# Altium footprint library Altium-RC.PcbLib: 36 footprints (part 1 of 3)
Each footprint in its own frame and in the unit in brackets; x right, y up, seen from the top. Pads: shape width x height; smd on the part's side, far side on the other; paste and mask are expansions set on the pad; w line width, h text height; cw(c..) or ccw(c..) is an arc to the next point about the centre after c.
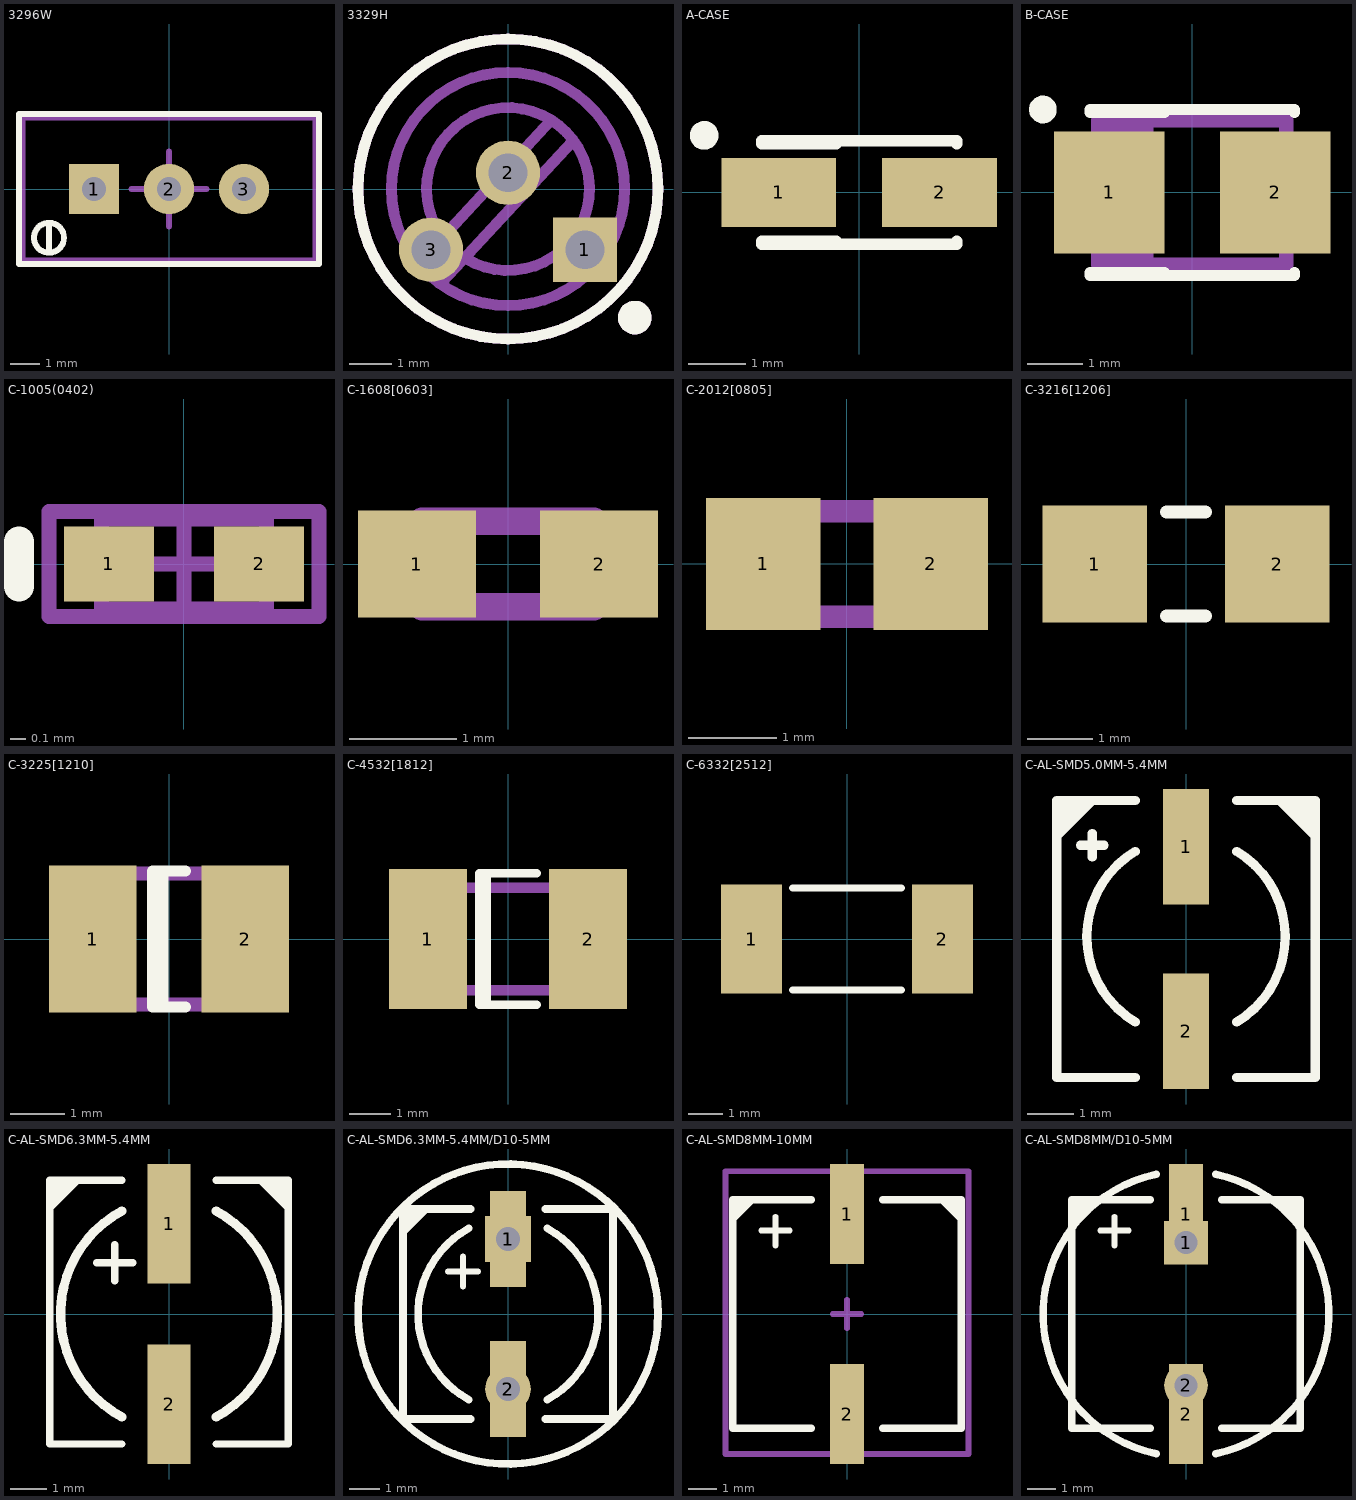
[diagram p0: the footprints below, top view; thin cyan lines are the x and y axes]

## 3296W [mm] "Square Trimming Potentiometer, 3/8 ”"
height 11.55
pads (3):
  rect 1.7x1.7 hole 0.8: 1(-2.54,0)
  round 1.7 hole 0.8: 2(0,0) 3(2.54,0)
Top Overlay:
  circle w0.2: c-4.064,-1.651 r0.508
  lines w0.2: -4.064,-2.159 -4.064,-1.143 ; -5.08,-2.54 5.08,-2.54 5.08,2.54 -5.08,2.54 -5.08,-2.54
Mechanical 13:
  lines w0.2: -4.953,-2.413 -4.953,-2.286 -4.953,2.413 4.953,2.413 4.953,-2.413 -4.953,-2.413
Mechanical 15:
  lines w0.2: -1.27,0 1.27,0 ; 0,-1.27 0,1.27
3D body: height 9.65, standoff 0.38, extent -4.953,-2.413 4.953,2.413

## 3329H [mm] "Round Trimming Potentiometer Footprint"
pads (3):
  rect 1.5x1.5 hole 0.9: 1(1.796,-1.416)
  round 1.5 hole 0.9: 2(0,0.38) 3(-1.796,-1.416)
Top Overlay:
  circle w0.25: c0,0 r3.5
  circle w0.5: c2.959,-3 r0.141
Mechanical 13:
  circle w0.5: c2.959,-3 r0.141
  circle w0.25: c0,0 r3.5
  circle w0.254: c0,0 r2.72
  lines w0.254: -2.08,-1.726 1,1.6 ; -1.532,-1.124 cw(c0,0) -0.978,-1.629 ; -1.526,-2.168 1.5,1.1
  text ".Designator" at -3.325,4.3 h2
3D body: height 4.6, standoff 0.2, extent -3.5,-3.5 3.472,3.486

## A-CASE [mm]
height 1.6
pads (2):
  rect 2x1.2 smd: 1(-1.4,0) 2(1.4,0)
Top Overlay:
  circle w0.25: c-2.7,0.992 r0.125
  lines w0.2: -1.7,-0.9 1.7,-0.9 1.7,-0.85 ; -1.7,-0.85 -0.4,-0.85 ; -1.7,0.85 -0.4,0.85 ; -1.7,0.9 1.7,0.9 1.7,0.85
3D body: height 1.6, standoff 0, extent -1.6,-0.8 1.6,0.8

## B-CASE [mm]
height 1.9
pads (2):
  rect 2x2.2 smd: 1(-1.5,0) 2(1.5,0)
Top Overlay:
  circle w0.25: c-2.7,1.5 r0.125
  lines w0.2: -1.85,-1.5 1.85,-1.5 1.85,-1.45 ; -1.85,-1.45 -0.5,-1.45 ; -1.85,1.45 -0.5,1.45 ; -1.85,1.5 1.85,1.5 1.85,1.45
Mechanical 13:
  rectangle: -1.7,-1.3 -0.7,1.3
  lines w0.254: -1.7,-1.3 1.7,-1.3 1.7,1.3 -1.7,1.3 -1.7,-1.3
  text ".Designator" at -1.925,2 h2
3D body: height 1.9, standoff 0, extent -1.75,-1.4 1.75,1.4

## C-1005(0402) [mm] "Chip Capacitor, Body 1.0x0.5mm, IPC High Density"
height 0.6
pads (2):
  rect 0.6x0.5 smd: 1(-0.5,0) 2(0.5,0)
Top Overlay:
  lines w0.2: -1.1,-0.15 -1.1,0.15
Mechanical 13:
  lines w0.1: -0.55,-0.3 -0.55,0.3 0.55,0.3 0.55,-0.3 -0.55,-0.3
Mechanical 15:
  lines w0.1: -0.3,0 0.3,0 ; 0,-0.3 0,0.3 ; -0.9,-0.35 -0.9,0.35 0.9,0.35 0.9,-0.35 -0.9,-0.35
3D body: height 0.27, standoff 0, extent -0.5,-0.251 0.5,0.251

## C-1608[0603] [mm]
height 0.85
pads (2):
  rect 1.1x1 smd: 1(-0.85,0) 2(0.85,0)
Mechanical 13:
  lines w0.254: -0.8,-0.4 0.8,-0.4 0.8,0.4 -0.8,0.4 -0.8,-0.4
  text ".Designator" at -1.025,1 h2
3D body: height 0.5, standoff 0, extent -0.76,-0.375 0.76,0.375

## C-2012[0805] [mm]
height 1.1
pads (2):
  rect 1.3x1.5 smd: 1(-0.95,0) 2(0.95,0)
Mechanical 13:
  lines w0.254: -1,-0.6 -1,0.6 1,0.6 1,-0.6 -1,-0.6
  text ".Designator" at -1.125,1.3 h2
3D body: height 0.5, standoff 0, extent -1.015,-0.625 1.015,0.645

## C-3216[1206] [mm]
height 1.35
pads (2):
  rect 1.6x1.8 smd: 1(-1.4,0) 2(1.4,0)
Top Overlay:
  lines w0.2: -0.3,-0.8 0.3,-0.8 ; -0.3,0.8 0.3,0.8
3D body: height 0.5, standoff 0, extent -1.53,-0.8 1.53,0.8

## C-3225[1210] [mm]
height 1.35
pads (2):
  rect 1.6x2.7 smd: 1(-1.4,0) 2(1.4,0)
Top Overlay:
  lines w0.2: -0.11,-1.25 -0.11,1.25 ; 0.3,-1.25 -0.3,-1.25 -0.3,1.25 0.3,1.25
Mechanical 13:
  lines w0.254: -1.6,-1.2 -1.6,1.2 1.6,1.2 1.6,-1.2 -1.6,-1.2
  text ".Designator" at -1.625,2.2 h2
3D body: height 0.85, standoff 0, extent -1.6,-1.25 1.6,1.25

## C-4532[1812] [mm]
height 1.35
pads (2):
  rect 1.9x3.4 smd: 1(-1.95,0) 2(1.95,0)
Top Overlay:
  lines w0.2: -0.51,-1.6 -0.51,1.6 ; 0.7,-1.6 -0.7,-1.6 -0.7,1.6 0.7,1.6
Mechanical 13:
  lines w0.254: -2,-1.25 2,-1.25 2,1.25 -2,1.25 -2,-1.25
  text ".Designator" at -2.025,2.6 h2
3D body: height 0.85, standoff 0, extent -2.25,-1.6 2.25,1.6

## C-6332[2512] [mm]
height 1.1
pads (2):
  rect 1.8x3.2 smd: 1(-2.8,0) 2(2.8,0)
Top Overlay:
  lines w0.2: -1.6,-1.5 1.6,-1.5 ; -1.6,1.5 1.6,1.5
3D body: height 0.5, standoff 0, extent -3.175,-1.575 3.175,1.575

## C-AL-SMD5.0MM-5.4MM [mm]
height 5.4
pads (2):
  rect 1x2.5 smd: 1(0,2) 2(0,-2)
Top Overlay:
  region: 2.8,3 1.9,3 2.8,2.1
  region: -2.8,3 -2.8,2.1 -1.9,3
  lines w0.2: -2.286,2.032 -1.778,2.032 ; -2.032,1.778 -2.032,2.286 ; -1.1,-3 -2.8,-3 -2.8,3 -1.1,3 ; -1.098,-1.799 cw(c0,0.05) -1.098,1.899 ; 1.098,-1.799 ccw(c0,0.05) 1.098,1.899 ; 1.1,-3 2.8,-3 2.8,3 1.1,3
3D body: height 5.4, standoff 0, extent -2.65,-3 2.65,3

## C-AL-SMD6.3MM-5.4MM [mm]
height 5.4
pads (2):
  rect 1.2x3.3 smd: 1(0,2.5) 2(0,-2.5)
Top Overlay:
  region: -3.3,3.7 -3.3,2.8 -2.4,3.7
  region: 3.3,3.7 3.3,2.8 2.4,3.7
  lines w0.2: -2,1.42 -1,1.42 ; -1.5,0.92 -1.5,1.92 ; -1.3,-3.6 -3.3,-3.6 -3.3,3.7 -1.3,3.7 ; 1.3,-3.6 3.3,-3.6 3.3,3.7 1.3,3.7
  lines w0.254: -1.306,-2.853 cw(c0.25,0) -1.306,2.853 ; 1.306,-2.853 ccw(c-0.25,0) 1.306,2.853
3D body: height 5.4, standoff 0, extent -3.3,-3.6 3.3,3.7

## C-AL-SMD6.3MM-5.4MM/D10-5MM [mm]
height 12
pads (4):
  rect 1.2x3.2 smd: 1(0,2.5) 2(0,-2.5)
  rect 1.524x1.524 hole 0.8: 1(0,2.5)
  round 1.524 hole 0.8: 2(0,-2.5)
Top Overlay:
  circle w0.254: c0,0 r5
  lines w0.2: -2,1.42 -1,1.42 ; -1.5,0.92 -1.5,1.92
  lines w0.254: -3.5,2.75 -2.75,3.5 ; -3.5,3 -3,3.5 ; -3.5,3.25 -3.25,3.5 ; -1.306,-2.853 cw(c0.25,0) -1.306,2.853 ; -1.25,-3.5 -3.5,-3.5 -3.5,3.5 -1.25,3.5 ; 1.25,-3.5 3.5,-3.5 3.5,3.5 1.25,3.5 ; 1.306,-2.853 ccw(c-0.25,0) 1.306,2.853
3D body: height 5.4, standoff 0, extent -3.3,-3.65 3.3,3.65

## C-AL-SMD8MM-10MM [mm]
height 10
pads (2):
  rect 1.2x3.5 smd: 1(0,3.5)
  rect 1.2x3.5 smd mask+0.102: 2(0,-3.5)
Top Overlay:
  lines w0.2: -4,3.5 -3.5,4 ; -4,3.6 -4,3.3 -3.3,4 ; -4,3.8 -3.8,3.8 -3.6,4 ; -3,2.92 -2,2.92 ; -2.5,2.4 -2.5,3.4 ; 3.3,4 4,3.3 ; 3.4,4 3.5,4 4,3.5 ; 3.7,4 4,3.7
  lines w0.254: -1.25,-4 -4,-4 -4,4 -1.25,4 ; 1.25,-4 4,-4 4,4 1.25,4
Mechanical 13:
  lines w0.2: -4.25,-4.9 -4.25,5 4.25,5 4.25,-4.9 -4.25,-4.9
Mechanical 15:
  lines w0.2: -0.5,0 0.5,0 ; 0,-0.5 0,0.5
3D body: height 10.2, standoff 0, extent -4.15,-4.8 4.15,4.9

## C-AL-SMD8MM/D10-5MM [mm]
height 12
pads (4):
  rect 1.524x1.524 hole 0.8: 1(0,2.5)
  rect 1.2x3.5 smd: 1(0,3.5)
  rect 1.2x3.5 smd mask+0.102: 2(0,-3.5)
  round 1.524 hole 0.8: 2(0,-2.5)
Top Overlay:
  lines w0.2: -4,3.5 -3.5,4 ; -4,3.6 -4,3.3 -3.3,4 ; -4,3.8 -3.8,3.8 -3.6,4 ; -3,2.92 -2,2.92 ; -2.5,2.4 -2.5,3.4 ; 3.3,4 4,3.3 ; 3.4,4 3.5,4 4,3.5 ; 3.7,4 4,3.7
  lines w0.254: -1.25,-4 -4,-4 -4,4 -1.25,4 ; -1.041,-4.891 cw(c0,0) -1.041,4.891 ; 1.041,-4.891 ccw(c0,0) 1.041,4.891 ; 1.25,-4 4,-4 4,4 1.25,4
3D body: height 10.2, standoff 0, extent -4.15,-4.8 4.15,4.9